# Altium schematic symbol library Howard.SchLib: 217 symbols (part 1 of 5)
Pins are listed as number, name and electrical type; pins without a type are passive.

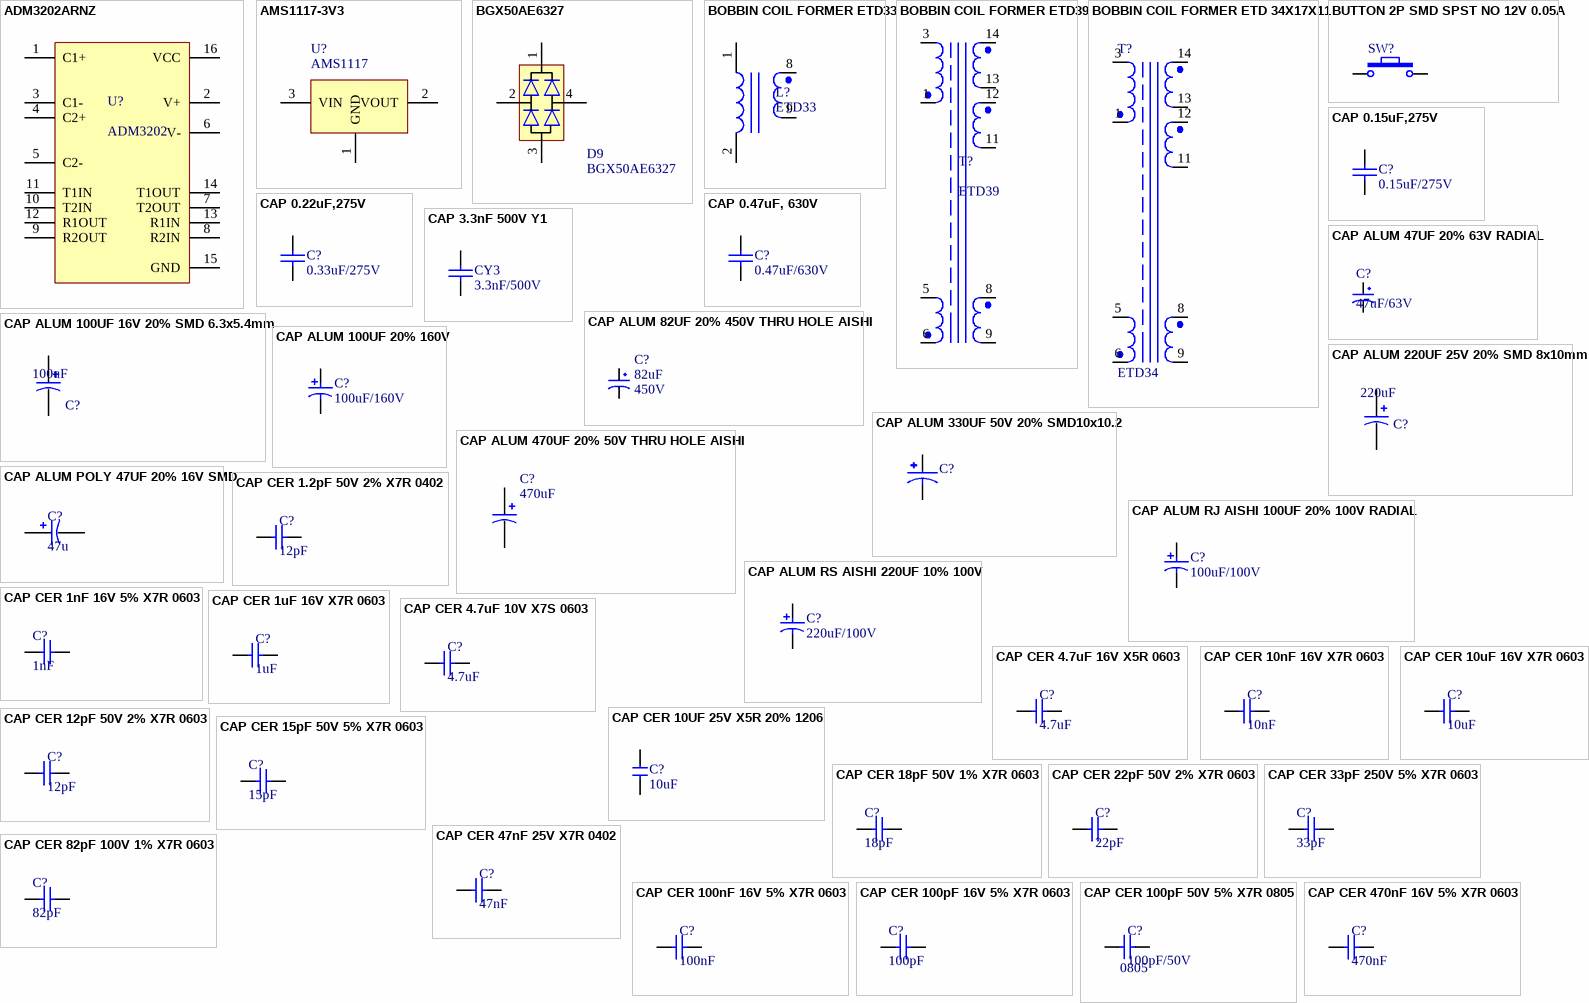
[diagram p0: symbols ADM3202ARNZ to CAP CER 470nF 16V 5% X7R 0603]

## ADM3202ARNZ
designator U?, comment ADM3202
Dual Transmitter/Receiver RS-232 16-Pin SOIC N Tube; Manufacturer: Analog Devices; Manufacturer Part Number: ADM3202ARNZ; Data Rate: 460Kbps; Nominal Supply Current: 12mA; Number of Transmitters: 2; Operating Supply Voltage: 3.3V; Min Supply Voltage: 3V; Max Supply Voltage: 5.5V; Logic Function: Transceiver,Receiver; Operating Supply Current: 3mA; Number of Transceivers: 1; Simplex/Duplex: Full Duplex; Receiver Hysteresis: 400mV; ESD Protection: Yes; Voltage: 5V; Supplier 1: Digi-Key; Stock 1: 12652; Pricing 1: 1=3.6, 10=3.229, 25=3.0528, 100=2.6458, 250=2.51008, 500=2.25228, 1000=1.92 (USD); Mount: Surface Mount; Case/Package: SOIC; Number of Pins: 16; Contact Plating: Tin,Matte; Min Operating Temperature: -40°C; Max Operating Temperature: 85°C; Packaging: Rail/Tube; Number of Receivers: 2; Package Quantity: 48; Number of Drivers: 2; Series: -; Supply Current: 12mA; Number of Channels: 2; Interface: RS-232; Termination: SMD/SMT; Max Supply Current: 12mA; Length: 10mm; Width: 4mm; Height: 1.5mm; Radiation Hardening: No; Lead Free: Contains Lead; RoHS Compliant: Yes; Reach SVHC Compliant: Yes; ComponentLink1URL: https://datasheet.ciiva.com/14152/sh646736-e-14152876.pdf?src-supplier=Distrelec; ComponentLink1Description: https://datasheet.ciiva.com/14152/sh646736-e-14152876.pdf?src-supplier=Distrelec; ComponentLink2URL: https://datasheet.ciiva.com/1147/1506138-1147497.pdf?src-supplier=Element14; ComponentLink2Description: https://datasheet.ciiva.com/1147/1506138-1147497.pdf?src-supplier=Element14; ComponentLink3URL: https://datasheet.ciiva.com/22697/1506138-22697583.pdf?src-supplier=Element14; ComponentLink3Description: https://datasheet.ciiva.com/22697/1506138-22697583.pdf?src-supplier=Element14; ComponentLink4URL: https://datasheet.ciiva.com/3028/adm3202-3222-1385-3028090.pdf?src-supplier=Avnet; ComponentLink4Description: https://datasheet.ciiva.com/3028/adm3202-3222-1385-3028090.pdf?src-supplier=Avnet; ComponentLink5URL: https://datasheet.ciiva.com/1700/adm3202-3222-1385-1700182.pdf?src-supplier=Digi-Key; ComponentLink5Description: https://datasheet.ciiva.com/1700/adm3202-3222-1385-1700182.pdf?src-supplier=Digi-Key; ComponentLink6URL: https://datasheet.ciiva.com/48710/001248386-da-01-en-ic-tx-rx-dual-rs-adm3202arnz-soic-16-adi-48710346.pdf?src-supplier=Conrad; ComponentLink6Description: https://datasheet.ciiva.com/48710/001248386-da-01-en-ic-tx-rx-dual-rs-adm3202arnz-soic-16-adi-48710346.pdf?src-supplier=Conrad; Supplier Part Number 1: 505-ADM3202ARNZ-ND
footprint SOIC-16 (Small Outline IC (SOIC), 1.27 mm pitch; 16 pin, 9.90 mm L X 4.00 mm W X 1.75 mm H body)
pins: 1 C1+, 2 V+, 3 C1-, 4 C2+, 5 C2-, 6 V-, 7 T2OUT, 8 R2IN, 9 R2OUT, 10 T2IN, 11 T1IN, 12 R1OUT, 13 R1IN, 14 T1OUT, 15 GND, 16 VCC

## AMS1117-3V3
designator U?, comment AMS1117
800mA Low-Dropout Linear Regulator
footprint SOT223 (mounted package with increased heatsink; 4  leads)
pins: 1 GND, 2 VOUT, 3 VIN

## BGX50AE6327
designator D9
DIODE SWITCHING 50V SOT-143; Manufacturer: Infineon Technologies; .Checked PCB: used; Current - DC Forward (If): 140mA; Diode Type: Single Phase; Speed: Small Signal =< 200mA (Io), Any Speed; Reverse Recovery Time (trr): 6ns; .Checked SCH: used; Category: Discrete Semiconductor Products; Family: Bridge Rectifiers; Manufacturer Part Number: BGX50AE6327; Package / Case: TO-253-4, TO-253AA; Price 1k [$]: 0.10013; Supplier: Digikey; Supplier Part Number: BGX50AINCT-ND; Value: BGX50AE6327; Supplier 1: Digi-Key; Supplier Part Number 1: BGX50AINCT-ND; RoHS: RoHS Compliant; Stock 1: 438; Pricing 1: 1=0.47, 10=0.334, 100=0.2225, 500=0.12906, 1000=0.10013 (USD); Voltage - Peak Reverse (Max): 50V; Mounting Type: Surface Mount; Packaging: Cut Tape (CT); Supplier Device Package: PG-SOT143-4; ComponentLink1URL: http://www.infineon.com/dgdl/bgx50aseries.pdf?folderId=db3a30431400ef6801141cc1c4cd04e8&fileId=db3a30431400ef6801141cc423c404e9; ComponentLink1Description: http://www.infineon.com/dgdl/bgx50aseries.pdf?folderId=db3a30431400ef6801141cc1c4cd04e8&fileId=db3a30431400ef6801141cc423c404e9
footprint SOT143
pins: 1, 2, 3, 4

## BOBBIN COIL FORMER ETD33
designator L?, comment ETD33
BOBBIN COIL FORMER ETD33
footprint EE33/6/6
pins: 1, 2, 8, 9

## BOBBIN COIL FORMER ETD39
designator T?, comment ETD39
Coil Former, 122Mm2, 60.5Mm, Black Rohs Compliant: Yes; Manufacturer: TDK EPCOS; Manufacturer Part Number: B66362W1014T001; Material: Polyterephthalate; Inside Diameter: 20.9mm; Outside Diameter: 25.4mm; Number of Pins: 14; Weight: 1.410958oz; Max Operating Temperature: 180°C; Package Quantity: 100; Series: B66362; Packaging: Bulk; Termination: Pin; ComponentLink1URL: https://datasheet.ciiva.com/48906/70419804-48906870.pdf?src-supplier=Allied+Electronics; ComponentLink1Description: https://datasheet.ciiva.com/48906/70419804-48906870.pdf?src-supplier=Allied+Electronics; Supplier 1: Digi-Key; Stock 1: 0; Pricing 1: 2100=0.7142 (USD); Length: 40mm; Width: 12.8mm; Height: 19.8mm; ComponentLink2URL: https://www.ferroxcube.com/upload/media/product/file/Pr_ds/ETD39_20_13.pdf?src-supplier=Digi-Key; ComponentLink2Description: https://www.ferroxcube.com/upload/media/product/file/Pr_ds/ETD39_20_13.pdf?src-supplier=Digi-Key; Supplier Part Number 1: ETD39/20/13-3C94-G200-ND
footprint ETD39
pins: 1, 3, 5, 6, 8, 9, 11, 12, 13, 14

## BOBBIN COIL FORMER ETD 34X17X11
designator T?, comment ETD34
Coil Former, 122Mm2, 60.5Mm, Black Rohs Compliant: Yes; Manufacturer: TDK EPCOS; Manufacturer Part Number: B66362W1014T001; Material: Polyterephthalate; Inside Diameter: 20.9mm; Outside Diameter: 25.4mm; Supplier 1: Digi-Key; Stock 1: 562; Pricing 1: 1=2.69, 10=2.318, 25=1.7616, 50=1.669, 100=1.4835, 250=1.39076, 500=1.29806, 1000=1.19143, 5000=1.15898 (USD); Number of Pins: 14; Weight: 1.410958oz; Max Operating Temperature: 180°C; Package Quantity: 100; Series: B66362; Packaging: Bulk; Termination: Pin; ComponentLink1URL: https://datasheet.ciiva.com/48906/70419804-48906870.pdf?src-supplier=Allied+Electronics; ComponentLink1Description: https://datasheet.ciiva.com/48906/70419804-48906870.pdf?src-supplier=Allied+Electronics; Supplier Part Number 1: 495-5465-ND
footprint ETD34
pins: 1, 3, 5, 6, 8, 9, 11, 12, 13, 14

## BUTTON 2P SMD SPST NO 12V 0.05A
designator SW?, comment BUTTON  (value not drawn)
BUTTON_2P_SMD_SPST-NO_12V_0.05A; Manufacturer: C&K; Manufacturer PN: PTS636 SK50 SMTR LFS; Value: SPST_SMD; Distributor: LCSC; Distributor PN: C2801281; Datasheet Link: https://datasheet.lcsc.com/lcsc/2304140030_C-K-PTS636-SK50-SMTR-LFS_C2801281.pdf; Sale Link: https://www.lcsc.com/product-detail/Tactile-Switches_C-K-PTS636-SK50-SMTR-LFS_C2801281.html; Price: $0.3965
footprint BUTTON_2_SMD (Button_2P_SMD_3x6x2.5mm)
pins: 1, 2

## CAP 0.15uF,275V
designator C?, comment 0.15uF/275V
CAP 0.15uF,275V; Manufacturer: LKCL; Manufacturer Part Number: CLA1240; Processing Type: DIP; Packing: Tube; Unit: PCS; Value: 0.1uF/275V; Category: Capacitor
footprint 0.15uF/275VAC 15mmH 5mmW 18mmL
pins: 1, 2

## CAP 0.22uF,275V
designator C?, comment 0.33uF/275V
CAP 0.1uF,275V; Manufacturer: LKCL; Manufacturer Part Number: CLA1240; Processing Type: DIP; Packing: Tube; Unit: PCS; Value: 0.1uF/275V; Category: Capacitor
footprint CAP 18X8.5X16.5X15 LEAD SPACING
pins: 1, 2

## CAP 0.47uF, 630V
designator C?, comment 0.47uF/630V
CAP 0.47uF, 630V; Manufacturer: LKCL; Manufacturer Part Number: CLA1240; Processing Type: DIP; Packing: Tube; Unit: PCS; Value: 0.1uF/275V; Category: Capacitor
footprint 470uF/630V (Cap np W 0.3)
pins: 1, 2

## CAP 3.3nF 500V Y1
designator CY3, comment 3.3nF/500V
CAP 3.3nF 500V Y1; Manufacturer: LKCL; Manufacturer Part Number: CLA1240; Processing Type: DIP; Packing: Tube; Unit: PCS; Value: 0.1uF/275V; Category: Capacitor
footprint TVR14391V
pins: 1, 2

## CAP ALUM 47UF 20% 63V RADIAL
designator C?, comment 47uF/63V
Cap Aluminum 47uF 63V 20% (8 X 11.5mm) Radial 3.5mm 405mA 3000 hr 105C Ammo Pack; Manufacturer: Nichicon; Manufacturer Part Number: UPW1J470MPD1TD; Dielectric Material: Aluminium; ESR (Equivalent Series Resistance): 684mR; Impedance: 342mR; Life (Hours): 3000Hour; Supplier 1: Digi-Key; Stock 1: 26935; Pricing 1: 1=0.45, 10=0.321, 50=0.2424, 100=0.2111, 500=0.15634 (USD); Mount: Through Hole; Case/Package: Radial; Min Operating Temperature: -55°C; Max Operating Temperature: 105°C; Capacitance: 47uF; Tolerance: 20%; Ripple Current: 405mA; Voltage Rating: 63V; Package Quantity: 1000; Packaging: Tape and Reel; Termination: Radial; Voltage Rating (DC): 63V; Series: UPW; Diameter: 8mm; Height: 11.5mm; Lead Pitch: 3.5mm; Height - Seated (Max): 0.512inch; Radiation Hardening: No; Reach SVHC Compliant: Yes; Lead Free: Lead Free; RoHS Compliant: Yes; ComponentLink1URL: https://datasheet.ciiva.com/7907/e-pw-7907438.pdf?src-supplier=Element14; ComponentLink1Description: https://datasheet.ciiva.com/7907/e-pw-7907438.pdf?src-supplier=Element14; ComponentLink2URL: https://datasheet.ciiva.com/46391/1909381-46391130.pdf?src-supplier=Element14; ComponentLink2Description: https://datasheet.ciiva.com/46391/1909381-46391130.pdf?src-supplier=Element14; ComponentLink3URL: https://datasheet.ciiva.com/29546/e-pw-29546670.pdf?src-supplier=Digi-Key; ComponentLink3Description: https://datasheet.ciiva.com/29546/e-pw-29546670.pdf?src-supplier=Digi-Key; ComponentLink4URL: https://datasheet.ciiva.com/29546/e-pw-29546669.pdf?src-supplier=Digi-Key; ComponentLink4Description: https://datasheet.ciiva.com/29546/e-pw-29546669.pdf?src-supplier=Digi-Key; ComponentLink5URL: https://datasheet.ciiva.com/16502/e-pw-16502651.pdf?src-supplier=Future+Electronics; ComponentLink5Description: https://datasheet.ciiva.com/16502/e-pw-16502651.pdf?src-supplier=Future+Electronics; Supplier Part Number 1: 493-11607-1-ND
footprint CAP_ALUM_D070_S35_H115
pins: 1, 2

## CAP ALUM 82UF 20% 450V THRU HOLE AISHI
designator C?, comment 82uF  VOLTAGE: 450V
CAP ALUM 82UF 20% 450V THRU HOLE AISHI; MANUFACTURER1: JCCON; MANUFACTURER2_PART#: 450V 100uF 18x33mm; Value: 100uF/450V; LOH_code: CL06677; Mô Tả: Tụ hóa 450V 100uF 18x30mm tần số cao; CATEGORY: CAP-TH; MANUFACTURER2: http://linhkienchatluong.vn/tu-hoa-co-phan-cuc/tu-hoa-450v-100uf-18x30mm-tan-so-cao_sp454_ct6508.aspx
footprint CAP 82uF 450V (CAP-ALUM,DIP;330uF,20%,18x35.5mm,200V)
footprint C100U/450V (CAP-ALUM,DIP;1000uF,20%,18x35.5mm,450V)
pins: 1, 2

## CAP ALUM 100UF 16V 20% SMD 6.3x5.4mm
designator C?, comment 100uF
CAP_ALUM_100UF_16V_20%_SMD_6.3x5.4mm; Manufacturer: KEMET; Manufacturer PN: EEV107M016A9GAA; Distributor PN: CLA1046; Sale Link: https://linhkienchatluong.vn/tu-nhom---tu-hoa-dan/tu-nhom-16v-100uf-63x54mm_sp455_ct963.aspx; Distributor: linhkienchatluong.vn
footprint CAP_ALU_6.3x5.4mm
pins: 1, 2

## CAP ALUM 100UF 20% 160V
designator C?, comment 100uF/160V
Cap Aluminum Lytic 22uF 250V 20% (13 X 25mm) Radial 5mm 170mA 5000h 105C Bulk; Manufacturer: KEMET; Manufacturer Part Number: ESG226M400AL4AA; Dielectric Material: Aluminium; Life (Hours): 5000Hour; Voltage Rating: 400V; Impedance: 1.35R; Leakage Current: 62.8uA; Polarity: Polar; Dissipation Factor: 0.24%; Lead/Base Style: Straight; Lead Diameter: 0.6mm; Lead Length: 20mm; Supplier 1: Digi-Key; Stock 1: 1698; Pricing 1: 1=1.41, 10=1.111, 50=0.9624, 100=0.8329, 500=0.62932, 1000=0.55528, 2500=0.51826, 5000=0.49975 (USD); Mount: Through Hole,PCB; Case/Package: Radial; Min Operating Temperature: -40°C; Max Operating Temperature: 105°C; Capacitance: 22uF; Tolerance: 20%; Ripple Current: 170mA; Termination: Radial; Package Quantity: 1600; Packaging: Bulk; Voltage Rating (DC): 400V; ESR (Equivalent Series Resistance): 1.35R; Voltage: 400V; Series: ESG; Diameter: 13mm; Length: 25mm; Height: 25mm; Lead Pitch: 5mm; Height - Seated (Max): 1.063inch; Radiation Hardening: No; RoHS Compliant: Yes; Supplier Part Number 1: 399-6090-ND
footprint CAP_ALUM_D160_S75_H250
pins: 1, 2

## CAP ALUM 220UF 25V 20% SMD 8x10mm
designator C?, comment 220uF
CAP_ALUM_220UF_25V_20%_SMD_8x10mm; Manufacturer: KEMET; Manufacturer PN: EEV227M025A9MAA; Distributor PN: CLA1055; Sale Link: https://linhkienchatluong.vn/tu-nhom---tu-hoa-dan/tu-nhom-25v-220uf-8x10mm_sp455_ct970.aspx; Distributor: linhkienchatluong.vn
footprint CAP_ALU_8x10mm
pins: 1, 2

## CAP ALUM 330UF 50V 20% SMD10x10.2
designator C?, comment 330uF  (value not drawn)
CAP_ALUM_330UF_50V_20%_SMD10x10.2; Manufacturer PN: RVT330UF50V167RV085; Manufacturer: KNSCHA; Value: 330uF-50V; Datasheet: *; Sale Link: *; Distributor: LCSC; Price: *; NI: *; Distributor PN: C5155333
footprint CAP_EEEFT1H331AV
pins: 1, 2

## CAP ALUM 470UF 20% 50V THRU HOLE AISHI
designator C?, comment 470uF
CAP ALUM 470UF 20% 50V THRU HOLE AISHI; MANUFACTURER1: JCCON; MANUFACTURER2_PART#: 450V 100uF 18x33mm; Value: 100uF/450V; LOH_code: CL06677; Mô Tả: Tụ hóa 450V 100uF 18x30mm tần số cao; CATEGORY: CAP-TH; MANUFACTURER2: http://linhkienchatluong.vn/tu-hoa-co-phan-cuc/tu-hoa-450v-100uf-18x30mm-tan-so-cao_sp454_ct6508.aspx
footprint 470uF/50V
pins: 1, 2

## CAP ALUM POLY 47UF 20% 16V SMD
designator C?, comment 47u
Cap Aluminum Polymer Hybrid 47uF 16VDC 20% (5 X 5.8mm) SMD 0.08 Ohm 550mA 4000h 125C Automotive T/R; Manufacturer: United Chemi-Con; Manufacturer Part Number: HHXC160ARA470ME61G; Voltage Rating: 16V; ESR (Equivalent Series Resistance): 80mR; Life (Hours): 4000Hour; Supplier 1: Digi-Key; Stock 1: 1879; Pricing 1: 1=0.92, 10=0.68, 50=0.5442, 100=0.4664, 500=0.36926 (USD); Mount: Surface Mount; Case/Package: Radial; Min Operating Temperature: -55°C; Max Operating Temperature: 125°C; Resistor Type: Hybrid; Packaging: Cut Tape; Capacitance: 47uF; Tolerance: 20%; Series: HXC; Ratings: AEC-Q200; RoHS Compliant: Yes; ComponentLink1URL: http://www.chemi-con.co.jp/cgi-bin/CAT_DB/SEARCH/cat_db_al.cgi?e=e&j=p&pdfname=hxc&src-supplier=Digi-Key; ComponentLink1Description: http://www.chemi-con.co.jp/cgi-bin/CAT_DB/SEARCH/cat_db_al.cgi?e=e&j=p&pdfname=hxc&src-supplier=Digi-Key; ComponentLink2URL: http://www.chemi-con.co.jp/cgi-bin/CAT_DB/SEARCH/cat_db_al.cgi?e=e&amp;j=p&amp;pdfname=hxc&src-supplier=Digi-Key; ComponentLink2Description: http://www.chemi-con.co.jp/cgi-bin/CAT_DB/SEARCH/cat_db_al.cgi?e=e&amp;j=p&amp;pdfname=hxc&src-supplier=Digi-Key; Supplier Part Number 1: 565-5033-6-ND
footprint CAP_ALUM_SMD_5054_TYPE_C
pins: 1, 2

## CAP ALUM RJ AISHI 100UF 20% 100V RADIAL
designator C?, comment 100uF/100V
220 µF 250 V Aluminum Electrolytic Capacitors Radial, Can 5000 Hrs @ 105°C; Manufacturer: Nichicon; Manufacturer Part Number: UPT2P221MHD6; Capacitance: 220uF; Tolerance: 20%; Voltage Rating: 220V; Ripple Current: 770mA; Leakage Current: 2.914mA; Life (Hours): 5000Hour; Dissipation Factor: 0.12%; Mount: Through Hole; Case/Package: Radial; Min Operating Temperature: -25°C; Max Operating Temperature: 105°C; Package Quantity: 50; Packaging: Bulk; Termination: Radial; Voltage Rating (DC): 220V; Features: General Purpose; Series: PT; Diameter: 18mm; Length: 31.5mm; Height: 31.5mm; Lead Pitch: 7.5mm; Height - Seated (Max): 1.299inch; Radiation Hardening: No; RoHS Compliant: Yes; ComponentLink1URL: http://nichicon-us.com/english/products/pdfs/e-upt.pdf?src-supplier=Digi-Key; ComponentLink1Description: http://nichicon-us.com/english/products/pdfs/e-upt.pdf?src-supplier=Digi-Key; ComponentLink2URL: http://www.nichicon.co.jp/english/products/pdfs/e-pt.pdf?src-supplier=Avnet; ComponentLink2Description: http://www.nichicon.co.jp/english/products/pdfs/e-pt.pdf?src-supplier=Avnet; Supplier 1: Digi-Key; Supplier Part Number 1: 493-7355-ND
footprint 100uF/100V
pins: 1, 2

## CAP ALUM RS AISHI 220UF 10% 100V
designator C?, comment 220uF/100V
Cap Aluminum Lytic 220uF 100V 20% (13 X 25mm) Radial 5mm 170mA 5000h 105C Bulk; Manufacturer: KEMET; Manufacturer Part Number: ESG226M400AL4AA; Dielectric Material: Aluminium; Capacitance: 22uF; Life (Hours): 5000Hour; Voltage Rating: 400V; Impedance: 1.35R; Leakage Current: 62.8uA; Polarity: Polar; Dissipation Factor: 0.24%; Lead/Base Style: Straight; Lead Diameter: 0.6mm; Lead Length: 20mm; Supplier 1: Digi-Key; Stock 1: 1698; Pricing 1: 1=1.41, 10=1.111, 50=0.9624, 100=0.8329, 500=0.62932, 1000=0.55528, 2500=0.51826, 5000=0.49975 (USD); Mount: Through Hole,PCB; Case/Package: Radial; Min Operating Temperature: -40°C; Max Operating Temperature: 105°C; Tolerance: 20%; Ripple Current: 170mA; Termination: Radial; Package Quantity: 1600; Packaging: Bulk; Voltage Rating (DC): 400V; ESR (Equivalent Series Resistance): 1.35R; Voltage: 400V; Series: ESG; Diameter: 13mm; Length: 25mm; Height: 25mm; Lead Pitch: 5mm; Height - Seated (Max): 1.063inch; Radiation Hardening: No; RoHS Compliant: Yes; Supplier Part Number 1: 399-6090-ND
footprint 220UF/100V
pins: 1, 2

## CAP CER 1.2pF 50V 2% X7R 0402
designator C?, comment 12pF
Cap Ceramic 12pF 50V C0G 2% SMD 0402 125C Paper T/R
footprint C0402
pins: 1, 2

## CAP CER 1nF 16V 5% X7R 0603
designator C?, comment 1nF
1000 pF ±5% 16V Ceramic Capacitor X7R 0603 (1608 Metric); Manufacturer: KEMET; Manufacturer Part Number: C0603X102J4RECAUTO; Supplier 1: Digi-Key; Stock 1: 2638; Pricing 1: 1=0.22, 10=0.147, 50=0.0882, 100=0.0744, 500=0.0509, 1000=0.04503 (USD); Mount: Surface Mount; Case/Package: 0603; Case Code (Imperial): 0603; Case Code (Metric): 1608; Min Operating Temperature: -55°C; Max Operating Temperature: 125°C; Features: Soft Termination; Packaging: Tape and Reel; Capacitance: 1nF; Tolerance: 5%; Voltage Rating: 16V; Ratings: AEC-Q200; RoHS Compliant: Yes; ComponentLink1URL: http://www.farnell.com/datasheets/2743686.pdf?src-supplier=Newark; ComponentLink1Description: http://www.farnell.com/datasheets/2743686.pdf?src-supplier=Newark; ComponentLink2URL: http://www.farnell.com/datasheets/2743686.pdf?src-supplier=Farnell; ComponentLink2Description: http://www.farnell.com/datasheets/2743686.pdf?src-supplier=Farnell; ComponentLink3URL: https://api.kemet.com/component-edge/download/datasheet/C0603X102J4RECAUTO.pdf?src-supplier=Digi-Key; ComponentLink3Description: https://api.kemet.com/component-edge/download/datasheet/C0603X102J4RECAUTO.pdf?src-supplier=Digi-Key; Supplier Part Number 1: 399-17840-1-ND
footprint C0603C/1608MM (Chip Capacitor, 2-Leads, Body 1.6x0.8mm, IPC High Density)
pins: 1, 2

## CAP CER 1uF 16V X7R 0603
designator C?, comment 1uF
CAP CER 1UF 16V X7R 0603; Manufacturer: Yageo; Manufacturer Part Number: CC0603JRX7R7BB105; Tolerance: 5%; Mount: Surface Mount; Case/Package: 0603; Case Code (Imperial): 0603; Case Code (Metric): 1608; Min Operating Temperature: -55°C; Max Operating Temperature: 125°C; Packaging: Tape and Reel; Capacitance: 1uF; Voltage Rating: 16V; ComponentLink1URL: http://www.yageo.com/documents/recent/UPY-GPHC_X7R_6.3V-to-50V_18.pdf?src-supplier=Digi-Key; ComponentLink1Description: http://www.yageo.com/documents/recent/UPY-GPHC_X7R_6.3V-to-50V_18.pdf?src-supplier=Digi-Key; Supplier 1: Digi-Key; Stock 1: 970392; Pricing 1: 1=0.16, 10=0.112, 50=0.0634, 100=0.0525, 500=0.03682, 1000=0.03049 (USD); Number of Pins: 2; Dielectric: X7R; Package Quantity: 1; Voltage Rating (DC): 16V; Termination: SMD/SMT; Resistor Type: Ceramic; Dissipation Factor: 5%; Voltage: 16V; Series: CC; Construction: Flat; Length: 1.6mm; Width: 0.031inch; Height: 0.8mm; Thickness: 0.035inch; Depth: 0.8mm; Radiation Hardening: No; REACH SVHC: Unknown; Lead Free: Lead Free; Halogen Free: Halogen Free; RoHS Compliant: Yes; ComponentLink2URL: http://www.farnell.com/datasheets/2167236.pdf?src-supplier=Element14; ComponentLink2Description: http://www.farnell.com/datasheets/2167236.pdf?src-supplier=Element14; ComponentLink3URL: http://www.farnell.com/datasheets/1489800.pdf?src-supplier=Element14; ComponentLink3Description: http://www.farnell.com/datasheets/1489800.pdf?src-supplier=Element14; ComponentLink4URL: http://www.yageo.com/documents/recent/UPY-GPHC_X7R_6.3V-to-50V_18.pdf?src-supplier=Mouser; ComponentLink4Description: http://www.yageo.com/documents/recent/UPY-GPHC_X7R_6.3V-to-50V_18.pdf?src-supplier=Mouser; ComponentLink5URL: http://www.yageo.com/documents/recent/UPY-GPHC_X7R_6.3V-to-50V_8.pdf?src-supplier=Avnet+Europe; ComponentLink5Description: http://www.yageo.com/documents/recent/UPY-GPHC_X7R_6.3V-to-50V_8.pdf?src-supplier=Avnet+Europe; Supplier Part Number 1: 311-1446-6-ND
footprint C0603C/1608MM (Chip Capacitor, 2-Leads, Body 1.6x0.8mm, IPC High Density)
pins: 1, 2

## CAP CER 4.7uF 10V X7S 0603
designator C?, comment 4.7uF
Cap Ceramic 4.7uF 10V X7S 10% Pad SMD 0603 125C T/R; Manufacturer: Murata; Manufacturer Part Number: GRM188C71A475KE21D; Supplier 1: Digi-Key; Stock 1: 249; Pricing 1: 1=0.32, 10=0.218, 50=0.1452, 100=0.1234 (USD); RoHS Compliant: Yes; Supplier Part Number 1: 490-GRM188C71A475KE21DCT-ND
footprint C0603C/1608MM (Chip Capacitor, 2-Leads, Body 1.6x0.8mm, IPC High Density)
pins: 1, 2

## CAP CER 4.7uF 16V X5R 0603
designator C?, comment 4.7uF
CAP CERAMIC, 4.7UF, 16V, X5R, 0603; Product Range:TDK - C Series; Capacitance:4.7µF; Capacitance Tolerance:± 10%; Dielectric Characteristic:X5R; Voltage Rating:16V; Ceramic Capacitor Case:0603 ^1608 Metric]; Packaging:Cut Tape; MSL:-; Manufacturer: TDK; Manufacturer Part Number: C1608X5R1C475K080AC; Supplier 1: Digi-Key; Stock 1: 166673; Pricing 1: 1=0.3, 10=0.207, 50=0.138, 100=0.1173, 500=0.0828, 1000=0.07245 (USD); Mount: Surface Mount; Case/Package: 0603; Case Code (Metric): 1608; Case Code (Imperial): 0603; Weight: 7.1E-05oz; Dielectric Material: Ceramic; Min Operating Temperature: -55°C; Max Operating Temperature: 85°C; Capacitance: 4.7uF; Tolerance: 10%; Voltage Rating: 16V; Packaging: Tape and Reel; Package Quantity: 1; Dielectric: X5R; Voltage: 16V; Termination: SMD/SMT; Voltage Rating (DC): 16V; Series: C; Construction: Flat; Length: 1.6mm; Width: 0.031inch; Height: 0.8mm; Thickness: 0.035inch; Depth: 0.8mm; REACH SVHC: No SVHC; Lead Free: Lead Free; RoHS Compliant: Yes; ComponentLink1URL: http://www.farnell.com/datasheets/1796654.pdf?src-supplier=Newark; ComponentLink1Description: http://www.farnell.com/datasheets/1796654.pdf?src-supplier=Newark; ComponentLink2URL: http://www.farnell.com/datasheets/1796654.pdf?src-supplier=Element14; ComponentLink2Description: http://www.farnell.com/datasheets/1796654.pdf?src-supplier=Element14; ComponentLink3URL: http://www.farnell.com/datasheets/1913358.pdf?src-supplier=Element14; ComponentLink3Description: http://www.farnell.com/datasheets/1913358.pdf?src-supplier=Element14; ComponentLink4URL: http://product.tdk.com/capacitor/mlcc/en/documents/mlcc_commercial_general_en.pdf?src-supplier=Element14; ComponentLink4Description: http://product.tdk.com/capacitor/mlcc/en/documents/mlcc_commercial_general_en.pdf?src-supplier=Element14; ComponentLink5URL: https://product.tdk.com/info/en/catalog/spec/mlccspec_commercial_general_midvoltage_en.pdf?src-supplier=Digi-Key; ComponentLink5Description: https://product.tdk.com/info/en/catalog/spec/mlccspec_commercial_general_midvoltage_en.pdf?src-supplier=Digi-Key; Supplier Part Number 1: 445-7478-6-ND
footprint C0603C/1608MM (Chip Capacitor, 2-Leads, Body 1.6x0.8mm, IPC High Density)
pins: 1, 2

## CAP CER 10nF 16V X7R 0603
designator C?, comment 10nF
CAP CER 0603 10NF 16V X7R 10%; Manufacturer: KEMET; Manufacturer Part Number: C0603C103K4RECAUTO; Supplier 1: Digi-Key; Stock 1: 50866; Pricing 1: 1=0.15, 10=0.11, 50=0.0624, 100=0.0517, 500=0.03624, 1000=0.03 (USD); Mount: Surface Mount; Case/Package: 0603; Case Code (Imperial): 0603; Case Code (Metric): 1608; Min Operating Temperature: -55°C; Max Operating Temperature: 125°C; Packaging: Tape and Reel; Capacitance: 10nF; Tolerance: 10%; Voltage Rating: 16V; Ratings: AEC-Q200; RoHS Compliant: Yes; ComponentLink1URL: https://api.kemet.com/component-edge/download/datasheet/C0603C103K4RECAUTO.pdf?src-supplier=Digi-Key; ComponentLink1Description: https://api.kemet.com/component-edge/download/datasheet/C0603C103K4RECAUTO.pdf?src-supplier=Digi-Key; Supplier Part Number 1: 399-17880-1-ND
footprint C0603C/1608MM (Chip Capacitor, 2-Leads, Body 1.6x0.8mm, IPC High Density)
pins: 1, 2

## CAP CER 10uF 16V X7R 0603
designator C?, comment 10uF
CAP CER 0603 10uF 16V X7R 10%
footprint C0603C/1608MM (Chip Capacitor, 2-Leads, Body 1.6x0.8mm, IPC High Density)
pins: 1, 2

## CAP CER 10UF 25V X5R 20% 1206
designator C?, comment 10uF
CAP CER 10UF 25V X5R 1206; Manufacturer: Murata; Manufacturer Part Number: GRM31CR61E476ME44L; Capacitance: 4.7uF; Tolerance: 20%; Supplier 1: Digi-Key; Stock 1: 20758; Pricing 1: 1=1.14, 10=0.899, 100=0.674, 500=0.50924, 1000=0.44933 (USD); Length: 3.2mm; Width: 1.6mm; Thickness: 1.6mm; ComponentLink1URL: https://search.murata.co.jp/Ceramy/image/img/A01X/partnumbering_e_01.pdf?src-supplier=Digi-Key; ComponentLink1Description: https://search.murata.co.jp/Ceramy/image/img/A01X/partnumbering_e_01.pdf?src-supplier=Digi-Key; Supplier Part Number 1: 490-16268-6-ND; Case/Package: 1206; Voltage Rating (DC): 25V; Dielectric: X5R
footprint C1206B/3216MM (Chip Capacitor, 2-Leads, Body 3.2x1.6mm, IPC Medium Density)
pins: 1, 2

## CAP CER 12pF 50V 2% X7R 0603
designator C?, comment 12pF
Cap Ceramic 12pF 50V C0G 2% SMD 0603 125C Paper T/R; Manufacturer: Yageo; Manufacturer Part Number: CC0603GRNPO9BN120; Mount: Surface Mount; Case/Package: 0603; Number of Pins: 2; Case Code (Imperial): 0603; Case Code (Metric): 1608; Min Operating Temperature: -55°C; Max Operating Temperature: 125°C; Capacitance: 12pF; Tolerance: 2%; Dielectric: C0G; Packaging: Tape and Reel; Voltage Rating: 50V; Voltage Rating (DC): 50V; Termination: SMD/SMT; Resistor Type: Ceramic; Series: CC; Length: 1.6mm; Width: 0.031inch; Height: 0.8mm; Thickness: 0.035inch; Depth: 0.8mm; Lead Free: Lead Free; RoHS Compliant: Yes; Supplier 1: Digi-Key; Stock 1: 467; Pricing 1: 1=0.1, 10=0.049, 50=0.0268, 100=0.0219, 500=0.01566, 1000=0.0123, 2500=0.01118, 5000=0.01029 (USD); Weight: 2.3E-05oz; Supplier Part Number 1: 311-3609-6-ND; ComponentLink1URL: http://www.mouser.com/ds/2/447/Yageo_UPY-GP_NP0_16V-to-50V_9-358835.pdf?src-supplier=Mouser; ComponentLink1Description: http://www.mouser.com/ds/2/447/Yageo_UPY-GP_NP0_16V-to-50V_9-358835.pdf?src-supplier=Mouser
footprint C0603C/1608MM (Chip Capacitor, 2-Leads, Body 1.6x0.8mm, IPC High Density)
pins: 1, 2

## CAP CER 15pF 50V 5% X7R 0603
designator C?, comment 15pF
Cap Ceramic 15pF 50V C0G 5% Pad SMD 0603 125C T/R; Manufacturer: Yageo; Manufacturer Part Number: CC0402JRNPO7BN101; Capacitance: 100pF; Voltage Rating (DC): 16V; Mount: Surface Mount; Case/Package: 0402; Number of Pins: 2; Case Code (Imperial): 0402; Case Code (Metric): 1005; Weight: 2.3E-05oz; Min Operating Temperature: -55°C; Max Operating Temperature: 125°C; Tolerance: 5%; Packaging: Tape and Reel; Voltage Rating: 16V; Dielectric: C0G; Termination: SMD/SMT; Resistor Type: Ceramic; Series: CC; Length: 0.039inch; Width: 0.02inch; Thickness: 0.022inch; Depth: 0.5mm; Lead Free: Lead Free; ComponentLink1URL: http://www.yageo.com/documents/recent/UPY-GP_NP0_16V-to-50V_16.pdf?src-supplier=Digi-Key; ComponentLink1Description: http://www.yageo.com/documents/recent/UPY-GP_NP0_16V-to-50V_16.pdf?src-supplier=Digi-Key; ComponentLink2URL: https://www.yageo.com/upload/media/product/productsearch/datasheet/mlcc/UPY-GP_NP0_16V-to-50V_18.pdf?src-supplier=Digi-Key; ComponentLink2Description: https://www.yageo.com/upload/media/product/productsearch/datasheet/mlcc/UPY-GP_NP0_16V-to-50V_18.pdf?src-supplier=Digi-Key; ComponentLink3URL: http://www.mouser.com/ds/2/447/Yageo_UPY-GP_NP0_16V-to-50V_9-358835.pdf?src-supplier=Mouser; ComponentLink3Description: http://www.mouser.com/ds/2/447/Yageo_UPY-GP_NP0_16V-to-50V_9-358835.pdf?src-supplier=Mouser; ComponentLink4URL: http://components.arrow.com/part/dataview/0323_00775890?src-supplier=Arrow+Europe; ComponentLink4Description: http://components.arrow.com/part/dataview/0323_00775890?src-supplier=Arrow+Europe; ComponentLink5URL: http://www.yageo.com/documents/recent/UPY-GP_NP0_16V-to-50V_9.pdf?src-supplier=Future+Electronics; ComponentLink5Description: http://www.yageo.com/documents/recent/UPY-GP_NP0_16V-to-50V_9.pdf?src-supplier=Future+Electronics; ComponentLink6URL: http://www.yageo.com/exep/pages/download/literatures/ProductSelectionGuide%202014_Final_2.pdf?src-supplier=Digi-Key; ComponentLink6Description: http://www.yageo.com/exep/pages/download/literatures/ProductSelectionGuide%202014_Final_2.pdf?src-supplier=Digi-Key; Supplier 1: Digi-Key; Stock 1: 8300; Pricing 1: 1=0.23, 10=0.157, 50=0.094, 100=0.0794, 500=0.05436, 1000=0.04809 (USD); Supplier Part Number 1: 399-CBR06C150J5GACAUTOCT-ND
footprint C0603C/1608MM (Chip Capacitor, 2-Leads, Body 1.6x0.8mm, IPC High Density)
pins: 1, 2

## CAP CER 18pF 50V 1% X7R 0603
designator C?, comment 18pF
18 pF ±5% 50V Ceramic Capacitor C0G, NP0 0603 (1608 Metric); Manufacturer: Yageo; Manufacturer Part Number: CC0402JRNPO7BN101; Capacitance: 100pF; Voltage Rating (DC): 16V; Mount: Surface Mount; Case/Package: 0402; Number of Pins: 2; Case Code (Imperial): 0402; Case Code (Metric): 1005; Weight: 2.3E-05oz; Min Operating Temperature: -55°C; Max Operating Temperature: 125°C; Tolerance: 5%; Packaging: Tape and Reel; Voltage Rating: 16V; Dielectric: C0G; Termination: SMD/SMT; Resistor Type: Ceramic; Series: CC; Length: 0.039inch; Width: 0.02inch; Thickness: 0.022inch; Depth: 0.5mm; Lead Free: Lead Free; ComponentLink1URL: http://www.yageo.com/documents/recent/UPY-GP_NP0_16V-to-50V_16.pdf?src-supplier=Digi-Key; ComponentLink1Description: http://www.yageo.com/documents/recent/UPY-GP_NP0_16V-to-50V_16.pdf?src-supplier=Digi-Key; ComponentLink2URL: https://www.yageo.com/upload/media/product/productsearch/datasheet/mlcc/UPY-GP_NP0_16V-to-50V_18.pdf?src-supplier=Digi-Key; ComponentLink2Description: https://www.yageo.com/upload/media/product/productsearch/datasheet/mlcc/UPY-GP_NP0_16V-to-50V_18.pdf?src-supplier=Digi-Key; ComponentLink3URL: http://www.mouser.com/ds/2/447/Yageo_UPY-GP_NP0_16V-to-50V_9-358835.pdf?src-supplier=Mouser; ComponentLink3Description: http://www.mouser.com/ds/2/447/Yageo_UPY-GP_NP0_16V-to-50V_9-358835.pdf?src-supplier=Mouser; ComponentLink4URL: http://components.arrow.com/part/dataview/0323_00775890?src-supplier=Arrow+Europe; ComponentLink4Description: http://components.arrow.com/part/dataview/0323_00775890?src-supplier=Arrow+Europe; ComponentLink5URL: http://www.yageo.com/documents/recent/UPY-GP_NP0_16V-to-50V_9.pdf?src-supplier=Future+Electronics; ComponentLink5Description: http://www.yageo.com/documents/recent/UPY-GP_NP0_16V-to-50V_9.pdf?src-supplier=Future+Electronics; ComponentLink6URL: http://www.yageo.com/exep/pages/download/literatures/ProductSelectionGuide%202014_Final_2.pdf?src-supplier=Digi-Key; ComponentLink6Description: http://www.yageo.com/exep/pages/download/literatures/ProductSelectionGuide%202014_Final_2.pdf?src-supplier=Digi-Key; Supplier 1: Digi-Key; Stock 1: 15866; Pricing 1: 1=0.33, 10=0.227, 50=0.159, 100=0.1364, 500=0.10226, 1000=0.08636 (USD); Supplier Part Number 1: 478-KGQ15ACG2A820FTCT-ND
footprint C0603C/1608MM (Chip Capacitor, 2-Leads, Body 1.6x0.8mm, IPC High Density)
pins: 1, 2

## CAP CER 22pF 50V 2% X7R 0603
designator C?, comment 22pF
Cap Ceramic 22pF 50V C0G 2% SMD 0603 125C Paper T/R; Manufacturer: Yageo; Manufacturer Part Number: CC0603GRNPO9BN120; Capacitance: 12pF; Mount: Surface Mount; Case/Package: 0603; Number of Pins: 2; Case Code (Imperial): 0603; Case Code (Metric): 1608; Min Operating Temperature: -55°C; Max Operating Temperature: 125°C; Tolerance: 2%; Dielectric: C0G; Packaging: Tape and Reel; Voltage Rating: 50V; Voltage Rating (DC): 50V; Termination: SMD/SMT; Resistor Type: Ceramic; Series: CC; Length: 1.6mm; Width: 0.031inch; Height: 0.8mm; Thickness: 0.035inch; Depth: 0.8mm; Lead Free: Lead Free; RoHS Compliant: Yes; Supplier 1: Digi-Key; Stock 1: 467; Pricing 1: 1=0.1, 10=0.049, 50=0.0268, 100=0.0219, 500=0.01566, 1000=0.0123, 2500=0.01118, 5000=0.01029 (USD); Weight: 2.3E-05oz; Supplier Part Number 1: 311-3609-6-ND; ComponentLink1URL: http://www.mouser.com/ds/2/447/Yageo_UPY-GP_NP0_16V-to-50V_9-358835.pdf?src-supplier=Mouser; ComponentLink1Description: http://www.mouser.com/ds/2/447/Yageo_UPY-GP_NP0_16V-to-50V_9-358835.pdf?src-supplier=Mouser
footprint C0603C/1608MM (Chip Capacitor, 2-Leads, Body 1.6x0.8mm, IPC High Density)
pins: 1, 2

## CAP CER 33pF 250V 5% X7R 0603
designator C?, comment 33pF
Cap Ceramic 33pF 250V C0G 5% Pad SMD 0603 125C T/R; Manufacturer: Yageo; Manufacturer Part Number: CC0402JRNPO7BN101; Capacitance: 100pF; Voltage Rating (DC): 16V; Mount: Surface Mount; Case/Package: 0402; Number of Pins: 2; Case Code (Imperial): 0402; Case Code (Metric): 1005; Weight: 2.3E-05oz; Min Operating Temperature: -55°C; Max Operating Temperature: 125°C; Tolerance: 5%; Packaging: Tape and Reel; Voltage Rating: 16V; Dielectric: C0G; Termination: SMD/SMT; Resistor Type: Ceramic; Series: CC; Length: 0.039inch; Width: 0.02inch; Thickness: 0.022inch; Depth: 0.5mm; Lead Free: Lead Free; ComponentLink1URL: http://www.yageo.com/documents/recent/UPY-GP_NP0_16V-to-50V_16.pdf?src-supplier=Digi-Key; ComponentLink1Description: http://www.yageo.com/documents/recent/UPY-GP_NP0_16V-to-50V_16.pdf?src-supplier=Digi-Key; ComponentLink2URL: https://www.yageo.com/upload/media/product/productsearch/datasheet/mlcc/UPY-GP_NP0_16V-to-50V_18.pdf?src-supplier=Digi-Key; ComponentLink2Description: https://www.yageo.com/upload/media/product/productsearch/datasheet/mlcc/UPY-GP_NP0_16V-to-50V_18.pdf?src-supplier=Digi-Key; ComponentLink3URL: http://www.mouser.com/ds/2/447/Yageo_UPY-GP_NP0_16V-to-50V_9-358835.pdf?src-supplier=Mouser; ComponentLink3Description: http://www.mouser.com/ds/2/447/Yageo_UPY-GP_NP0_16V-to-50V_9-358835.pdf?src-supplier=Mouser; ComponentLink4URL: http://components.arrow.com/part/dataview/0323_00775890?src-supplier=Arrow+Europe; ComponentLink4Description: http://components.arrow.com/part/dataview/0323_00775890?src-supplier=Arrow+Europe; ComponentLink5URL: http://www.yageo.com/documents/recent/UPY-GP_NP0_16V-to-50V_9.pdf?src-supplier=Future+Electronics; ComponentLink5Description: http://www.yageo.com/documents/recent/UPY-GP_NP0_16V-to-50V_9.pdf?src-supplier=Future+Electronics; ComponentLink6URL: http://www.yageo.com/exep/pages/download/literatures/ProductSelectionGuide%202014_Final_2.pdf?src-supplier=Digi-Key; ComponentLink6Description: http://www.yageo.com/exep/pages/download/literatures/ProductSelectionGuide%202014_Final_2.pdf?src-supplier=Digi-Key; Supplier 1: Digi-Key; Stock 1: 308594; Pricing 1: 1=0.31, 10=0.218, 50=0.1524, 100=0.1306, 500=0.09794, 1000=0.08271 (USD); Supplier Part Number 1: 712-QSCP251Q330J1GV001TCT-ND
footprint C0603C/1608MM (Chip Capacitor, 2-Leads, Body 1.6x0.8mm, IPC High Density)
pins: 1, 2

## CAP CER 47nF 25V X7R 0402
designator C?, comment 47nF
Cap Ceramic 47nF 25V X7R 10% SMD 0402 125C T/R; Manufacturer: KEMET; Manufacturer Part Number: C0402C473K3REC7867; Supplier 1: Digi-Key; Stock 1: 1445; Pricing 1: 1=0.12, 10=0.083, 50=0.047, 100=0.039, 500=0.02736, 1000=0.02265, 2500=0.02108, 5000=0.01929 (USD); Supplier Part Number 1: 399-C0402C473K3REC7867DKR-ND
footprint C0402
pins: 1, 2

## CAP CER 82pF 100V 1% X7R 0603
designator C?, comment 82pF
82 pF ±1% 100V Ceramic Capacitor C0G, NP0 0603 (1608 Metric); Manufacturer: Yageo; Manufacturer Part Number: CC0402JRNPO7BN101; Capacitance: 100pF; Tolerance: 5%; Voltage Rating (DC): 16V; Mount: Surface Mount; Case/Package: 0402; Number of Pins: 2; Case Code (Imperial): 0402; Case Code (Metric): 1005; Weight: 2.3E-05oz; Min Operating Temperature: -55°C; Max Operating Temperature: 125°C; Packaging: Tape and Reel; Voltage Rating: 16V; Dielectric: C0G; Termination: SMD/SMT; Resistor Type: Ceramic; Series: CC; Length: 0.039inch; Width: 0.02inch; Thickness: 0.022inch; Depth: 0.5mm; Lead Free: Lead Free; ComponentLink1URL: http://www.yageo.com/documents/recent/UPY-GP_NP0_16V-to-50V_16.pdf?src-supplier=Digi-Key; ComponentLink1Description: http://www.yageo.com/documents/recent/UPY-GP_NP0_16V-to-50V_16.pdf?src-supplier=Digi-Key; ComponentLink2URL: https://www.yageo.com/upload/media/product/productsearch/datasheet/mlcc/UPY-GP_NP0_16V-to-50V_18.pdf?src-supplier=Digi-Key; ComponentLink2Description: https://www.yageo.com/upload/media/product/productsearch/datasheet/mlcc/UPY-GP_NP0_16V-to-50V_18.pdf?src-supplier=Digi-Key; ComponentLink3URL: http://www.mouser.com/ds/2/447/Yageo_UPY-GP_NP0_16V-to-50V_9-358835.pdf?src-supplier=Mouser; ComponentLink3Description: http://www.mouser.com/ds/2/447/Yageo_UPY-GP_NP0_16V-to-50V_9-358835.pdf?src-supplier=Mouser; ComponentLink4URL: http://components.arrow.com/part/dataview/0323_00775890?src-supplier=Arrow+Europe; ComponentLink4Description: http://components.arrow.com/part/dataview/0323_00775890?src-supplier=Arrow+Europe; ComponentLink5URL: http://www.yageo.com/documents/recent/UPY-GP_NP0_16V-to-50V_9.pdf?src-supplier=Future+Electronics; ComponentLink5Description: http://www.yageo.com/documents/recent/UPY-GP_NP0_16V-to-50V_9.pdf?src-supplier=Future+Electronics; ComponentLink6URL: http://www.yageo.com/exep/pages/download/literatures/ProductSelectionGuide%202014_Final_2.pdf?src-supplier=Digi-Key; ComponentLink6Description: http://www.yageo.com/exep/pages/download/literatures/ProductSelectionGuide%202014_Final_2.pdf?src-supplier=Digi-Key; Supplier 1: Digi-Key; Stock 1: 15866; Pricing 1: 1=0.33, 10=0.227, 50=0.159, 100=0.1364, 500=0.10226, 1000=0.08636 (USD); Supplier Part Number 1: 478-KGQ15ACG2A820FTCT-ND
footprint C0603C/1608MM (Chip Capacitor, 2-Leads, Body 1.6x0.8mm, IPC High Density)
pins: 1, 2

## CAP CER 100nF 16V 5% X7R 0603
designator C?, comment 100nF
Cap Ceramic 0.1uF 16V X7R 5% SMD 0603 125C T/R; Manufacturer: Yageo; Manufacturer Part Number: CC0603JRX7R7BB104; Supplier 1: Digi-Key; Stock 1: 333951; Pricing 1: 1=0.1, 10=0.077, 50=0.042, 100=0.0343, 500=0.02448, 1000=0.01923 (USD); Mount: Surface Mount; Case/Package: 0603; Number of Pins: 2; Case Code (Metric): 1608; Case Code (Imperial): 0603; Min Operating Temperature: -55°C; Max Operating Temperature: 125°C; Capacitance: 100nF; Tolerance: 5%; Voltage Rating: 16V; Packaging: Tape and Reel; Dielectric: X7R; Voltage Rating (DC): 16V; Series: CC; Length: 1.6mm; Width: 0.031inch; Thickness: 0.035inch; Depth: 0.8mm; Radiation Hardening: No; Lead Free: Lead Free; Halogen Free: Halogen Free; RoHS Compliant: Yes; ComponentLink1URL: https://www.verical.com/server-webapp/html/getDatasheet?partID=403543&src-supplier=Verical; ComponentLink1Description: https://www.verical.com/server-webapp/html/getDatasheet?partID=403543&src-supplier=Verical; Supplier Part Number 1: 311-1776-1-ND
footprint C0603C/1608MM (Chip Capacitor, 2-Leads, Body 1.6x0.8mm, IPC High Density)
pins: 1, 2

## CAP CER 100pF 16V 5% X7R 0603
designator C?, comment 100pF
Cap Ceramic 100pF 16V C0G 5% Pad SMD 0603 125C T/R; Manufacturer: Yageo; Manufacturer Part Number: CC0402JRNPO7BN101; Supplier 1: Digi-Key; Stock 1: 16054; Pricing 1: 1=0.1, 10=0.027, 50=0.015, 100=0.0122, 500=0.0087, 1000=0.00683, 2500=0.00621, 5000=0.00571 (USD); Mount: Surface Mount; Case/Package: 0402; Number of Pins: 2; Case Code (Imperial): 0402; Case Code (Metric): 1005; Weight: 2.3E-05oz; Min Operating Temperature: -55°C; Max Operating Temperature: 125°C; Capacitance: 100pF; Tolerance: 5%; Packaging: Tape and Reel; Voltage Rating (DC): 16V; Voltage Rating: 16V; Dielectric: C0G; Termination: SMD/SMT; Resistor Type: Ceramic; Series: CC; Length: 0.039inch; Width: 0.02inch; Thickness: 0.022inch; Depth: 0.5mm; Lead Free: Lead Free; ComponentLink1URL: http://www.yageo.com/documents/recent/UPY-GP_NP0_16V-to-50V_16.pdf?src-supplier=Digi-Key; ComponentLink1Description: http://www.yageo.com/documents/recent/UPY-GP_NP0_16V-to-50V_16.pdf?src-supplier=Digi-Key; ComponentLink2URL: https://www.yageo.com/upload/media/product/productsearch/datasheet/mlcc/UPY-GP_NP0_16V-to-50V_18.pdf?src-supplier=Digi-Key; ComponentLink2Description: https://www.yageo.com/upload/media/product/productsearch/datasheet/mlcc/UPY-GP_NP0_16V-to-50V_18.pdf?src-supplier=Digi-Key; ComponentLink3URL: http://www.mouser.com/ds/2/447/Yageo_UPY-GP_NP0_16V-to-50V_9-358835.pdf?src-supplier=Mouser; ComponentLink3Description: http://www.mouser.com/ds/2/447/Yageo_UPY-GP_NP0_16V-to-50V_9-358835.pdf?src-supplier=Mouser; ComponentLink4URL: http://components.arrow.com/part/dataview/0323_00775890?src-supplier=Arrow+Europe; ComponentLink4Description: http://components.arrow.com/part/dataview/0323_00775890?src-supplier=Arrow+Europe; ComponentLink5URL: http://www.yageo.com/documents/recent/UPY-GP_NP0_16V-to-50V_9.pdf?src-supplier=Future+Electronics; ComponentLink5Description: http://www.yageo.com/documents/recent/UPY-GP_NP0_16V-to-50V_9.pdf?src-supplier=Future+Electronics; ComponentLink6URL: http://www.yageo.com/exep/pages/download/literatures/ProductSelectionGuide%202014_Final_2.pdf?src-supplier=Digi-Key; ComponentLink6Description: http://www.yageo.com/exep/pages/download/literatures/ProductSelectionGuide%202014_Final_2.pdf?src-supplier=Digi-Key; Supplier Part Number 1: 311-3743-6-ND
footprint C0603C/1608MM (Chip Capacitor, 2-Leads, Body 1.6x0.8mm, IPC High Density)
pins: 1, 2

## CAP CER 100pF 50V 5% X7R 0805
designator C?, comment 100pF/50V  Case/Package: 0805
0805 100 pF 50 V ±10 % Tolerance X7R SMT Multilayer Ceramic Capacitor; Manufacturer: Yageo; Manufacturer Part Number: CC0805KRX7R9BB101; Capacitance: 100pF; Tolerance: 10%; Voltage Rating (DC): 50V; Supplier 1: Digi-Key; Stock 1: 41926; Pricing 1: 1=0.11, 10=0.082, 50=0.0462, 100=0.0383, 500=0.02688, 1000=0.02225 (USD); Mount: Surface Mount; Case Code (Imperial): 0805; Case Code (Metric): 2012; Weight: 0.000194oz; Min Operating Temperature: -55°C; Max Operating Temperature: 125°C; Packaging: Tape and Reel; Voltage Rating: 50V; Dielectric: X7R; Termination: SMD/SMT; Resistor Type: Ceramic; Series: CC; Construction: Flat; Length: 0.079inch; Width: 0.049inch; Thickness: 0.028inch; Depth: 1.25mm; Radiation Hardening: No; Lead Free: Lead Free; Halogen Free: Halogen Free; RoHS Compliant: Yes; ComponentLink1URL: http://www.yageo.com/documents/recent/UPY-GPHC_X7R_6.3V-to-50V_8.pdf?src-supplier=Avnet; ComponentLink1Description: http://www.yageo.com/documents/recent/UPY-GPHC_X7R_6.3V-to-50V_8.pdf?src-supplier=Avnet; Supplier Part Number 1: 311-3603-6-ND
footprint C0805B/2012MM (Chip Capacitor, 2-Leads, Body 2.0x1.3mm, IPC Medium Density)
pins: 1, 2

## CAP CER 470nF 16V 5% X7R 0603
designator C?, comment 470nF
Cap Ceramic 0.47uF 16V X7R 5% SMD 0603 125C T/R; Manufacturer: Yageo; Manufacturer Part Number: CC0603JRX7R7BB104; Capacitance: 100nF; Supplier 1: Digi-Key; Stock 1: 333951; Pricing 1: 1=0.1, 10=0.077, 50=0.042, 100=0.0343, 500=0.02448, 1000=0.01923 (USD); Mount: Surface Mount; Case/Package: 0603; Number of Pins: 2; Case Code (Metric): 1608; Case Code (Imperial): 0603; Min Operating Temperature: -55°C; Max Operating Temperature: 125°C; Tolerance: 5%; Voltage Rating: 16V; Packaging: Tape and Reel; Dielectric: X7R; Voltage Rating (DC): 16V; Series: CC; Length: 1.6mm; Width: 0.031inch; Thickness: 0.035inch; Depth: 0.8mm; Radiation Hardening: No; Lead Free: Lead Free; Halogen Free: Halogen Free; RoHS Compliant: Yes; ComponentLink1URL: https://www.verical.com/server-webapp/html/getDatasheet?partID=403543&src-supplier=Verical; ComponentLink1Description: https://www.verical.com/server-webapp/html/getDatasheet?partID=403543&src-supplier=Verical; Supplier Part Number 1: 311-1776-1-ND
footprint C0603C/1608MM (Chip Capacitor, 2-Leads, Body 1.6x0.8mm, IPC High Density)
pins: 1, 2

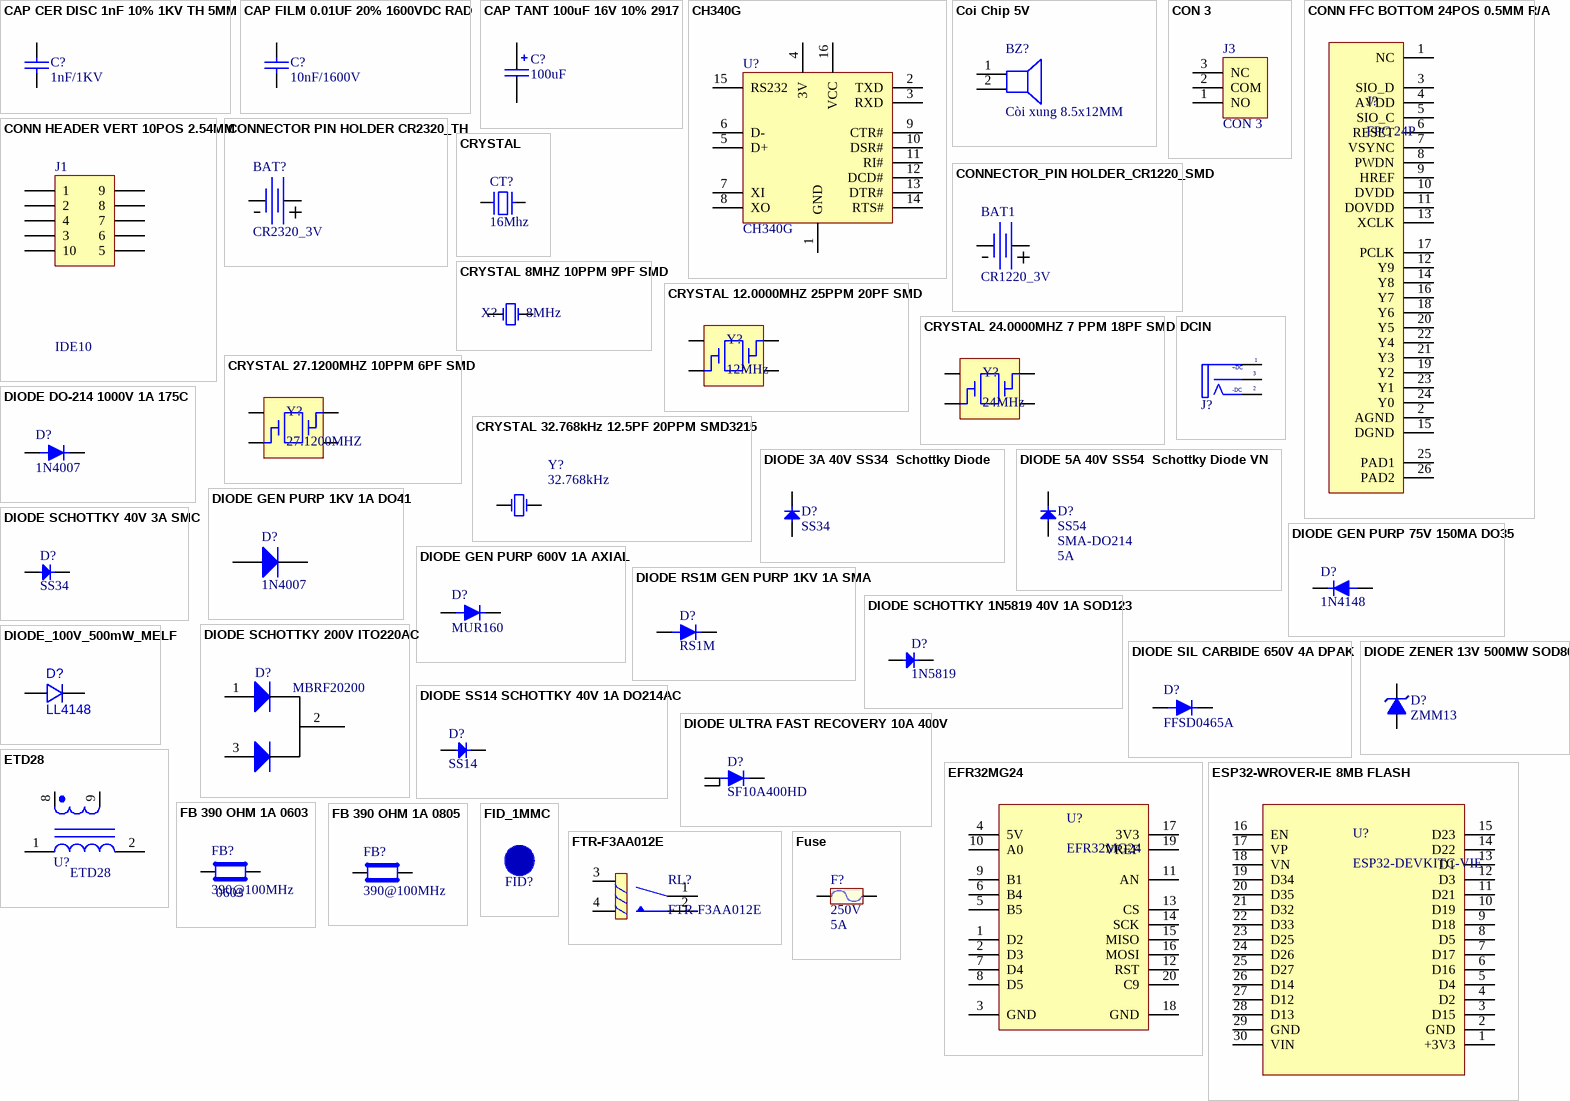
[diagram p1: symbols CAP CER DISC 1nF 10% 1KV TH 5MM to Fuse]

## CAP CER DISC 1nF 10% 1KV TH 5MM
designator C?, comment 1nF/1KV
CAP CER DISC 1nF 10% 1KV TH 5MM; Manufacturer: LKCL; Manufacturer Part Number: CLA1240; Processing Type: DIP; Packing: Tube; Unit: PCS; Value: 0.1uF/275V; Category: Capacitor
footprint CAP-MICA_Y5P102K2KV16CC0224
pins: 1, 2

## CAP FILM 0.01UF 20% 1600VDC RAD
designator C?, comment 10nF/1600V
Cap Film 0.01UF 20% 1600VDC Rad; Manufacturer: KEMET; Manufacturer Part Number: R474F210000A1M; Supplier 1: Digi-Key; Stock 1: 2655; Pricing 1: 1=0.65, 10=0.477, 50=0.3818, 100=0.3272, 500=0.25906, 1000=0.21816, 2500=0.20452, 5000=0.19089 (USD); RoHS Compliant: Yes; ComponentLink1URL: https://api.kemet.com/component-edge/download/datasheet/R474F210000A1M.pdf?src-supplier=Digi-Key; ComponentLink1Description: https://api.kemet.com/component-edge/download/datasheet/R474F210000A1M.pdf?src-supplier=Digi-Key; Supplier Part Number 1: 399-17233-ND
footprint 0.01uF/1600V
pins: 1, 2

## CAP TANT 100uF 16V 10% 2917
designator C?, comment 100uF
CAP TANT 100uF 16V 10% 2917; MPN: TAJD107K016RNJ; Solder: SMT; CompanyID: VT-00022; Value: 107/16V; Category: CAPACITOR; PinCount: 2
footprint CAP_TANTAL_2917(7343-31) (Chip capacitor, Body 6.0x3.2mm, IPC High Density)
pins: 1, 2

## CH340G
designator U?
High and Low Side Driver; Note: Pins 4, 8 and 14 are not connected; Published: 8-Jun-2000; LatestRevisionDate: 04-Mar-2005; LatestRevisionNote: Stylized 3D Model Added.; DatasheetVersion: PD60147J; PackageReference: PDIP14; Publisher: Altium Limited; PackageDescription: DIP; 14 Leads; Row Spacing 7.62 mm; Pitch 2.54 mm; ComponentLink1Description: Manufacturer Link; ComponentLink1URL: http://www.irf.com/; ComponentLink2Description: Datasheet; ComponentLink2URL: http://www.irf.com/product-info/datasheets/data/ir2110.pdf
footprint SOIC-16 (Small Outline IC (SOIC), 1.27 mm pitch; 16 pin, 9.90 mm L X 4.00 mm W X 1.75 mm H body)
pins: 1 GND, 2 TXD, 3 RXD, 4 3V, 5 D+, 6 D-, 7 XI, 8 XO, 9 CTR#, 10 DSR#, 11 RI#, 12 DCD#, 13 DTR#, 14 RTS#, 15 RS232, 16 VCC

## Coi Chip 5V
designator BZ?, comment Còi xung 8.5x12MM
Ten_Linh_Kien: Còi Chip 5V 9.5x12MM; Don_Vi: Con; Ma_Hang: MH000902; Chung_Loai: Cắm; Ghi_Chu: *; Kieu_Chan: *
footprint BUZZER_12.0X8.5MM
pins: 1, 2

## CON 3
designator J3
footprint CON 3
pins: 1 NO, 2 COM, 3 NC

## CONN FFC BOTTOM 24POS 0.5MM R/A
designator J?, comment FPC 24P
Conn; Rect; Rt. Angle; FFC/FPC; 0.50MM Pitch; 24 Circuit; Bottom Contact; ZIF; Manufacturer: Molex; Manufacturer Part Number: 505110-2491; Actuator Material: Nylon,Glass,Polyamide; Actuator Color: Black; Number of Positions: 24; Voltage Rating: 50V; Current Rating: 500mA; Gender: Receptacle; Mating Cycles: 25; Pitch: 0.5mm; Supplier 1: Digi-Key; Stock 1: 51686; Pricing 1: 1=1.03, 10=0.856, 100=0.7131, 1000=0.57045 (USD); Mount: Surface Mount; Number of Pins: 24; Contact Material: Bronze; Contact Plating: Gold; Housing Material: Polymer; Housing Color: Beige; Min Operating Temperature: -40°C; Max Operating Temperature: 105°C; Packaging: Cut Tape; Termination: Solder; Number of Circuits: 24; Number of Rows: 1; Orientation: Right Angle; Number of Contacts: 24; Series: Easy-On FD19 505110; Height: 1.9mm; Halogen Free: Low Halogen; Flammability Rating: UL94 V-0; ComponentLink1URL: http://www.farnell.com/datasheets/1966495.pdf?src-supplier=Element14; ComponentLink1Description: http://www.farnell.com/datasheets/1966495.pdf?src-supplier=Element14; ComponentLink2URL: http://www.farnell.com/datasheets/2790605.pdf?src-supplier=Farnell; ComponentLink2Description: http://www.farnell.com/datasheets/2790605.pdf?src-supplier=Farnell; ComponentLink3URL: http://www.molex.com/pdm_docs/sd/5051102091_sd.pdf?src-supplier=Avnet; ComponentLink3Description: http://www.molex.com/pdm_docs/sd/5051102091_sd.pdf?src-supplier=Avnet; ComponentLink4URL: http://www.alliedelec.com/images/products/datasheets/bm/MOLEX/70609530.pdf?src-supplier=Allied+Electronics; ComponentLink4Description: http://www.alliedelec.com/images/products/datasheets/bm/MOLEX/70609530.pdf?src-supplier=Allied+Electronics; ComponentLink5URL: http://www.farnell.com/datasheets/2790605.pdf?src-supplier=Newark; ComponentLink5Description: http://www.farnell.com/datasheets/2790605.pdf?src-supplier=Newark; ComponentLink6URL: https://media.digikey.com/pdf/Data%20Sheets/Molex%20PDFs/FFC-FPC_Connectors.pdf?src-supplier=Digi-Key; ComponentLink6Description: https://media.digikey.com/pdf/Data%20Sheets/Molex%20PDFs/FFC-FPC_Connectors.pdf?src-supplier=Digi-Key; Supplier Part Number 1: WM11289CT-ND
footprint CON_5051102491_MOL
pins: 1 NC, 2 AGND, 3 SIO_D, 4 AVDD, 5 SIO_C, 6 RESET, 7 VSYNC, 8 PWDN, 9 HREF, 10 DVDD, 11 DOVDD, 12 Y9, 13 XCLK, 14 Y8, 15 DGND, 16 Y7, 17 PCLK, 18 Y6, 19 Y2, 20 Y5, 21 Y3, 22 Y4, 23 Y1, 24 Y0, 25 PAD1, 26 PAD2

## CONN HEADER VERT 10POS 2.54MM
designator J1, comment IDE10
Connector Header Through Hole 10 position 0.050" (1.27mm)
footprint CONN IDE10 2.54MM
pins: 1, 2, 3, 4, 5, 6, 7, 8, 9, 10

## CONNECTOR PIN HOLDER CR2320_TH
designator BAT?, comment value CR2320_3V  (hidden comment: CONNECTOR)
CONNECTOR_PIN HOLDER_CR2320_TH; Manufacturer: Q&J; Manufacturer PN: CR1220-2; Datasheet Link: https://datasheet.lcsc.com/lcsc/1811061932_Q-J-CR1220-2_C70381.pdf; Distributor: LCSC; Distributor PN: C70381; Price: $0.2091; Sale Link: https://www.lcsc.com/product-detail/Battery-Connectors_Q-J-CR1220-2_C70381.html
footprint CR2032
pins: 1, 2

## CONNECTOR_PIN HOLDER_CR1220_SMD
designator BAT1, comment value CR1220_3V  (hidden comment: CONNECTOR)
CONNECTOR_PIN HOLDER_CR1220_SMD; Manufacturer: Q&J; Manufacturer PN: CR1220-2; Datasheet Link: https://datasheet.lcsc.com/lcsc/1811061932_Q-J-CR1220-2_C70381.pdf; Distributor: LCSC; Distributor PN: C70381; Price: $0.2091; Sale Link: https://www.lcsc.com/product-detail/Battery-Connectors_Q-J-CR1220-2_C70381.html
footprint CR12202
pins: 1, 2

## CRYSTAL
designator CT?, comment 16Mhz
Crystal For all Crystal 2pin.; Value: 4Mhz
footprint CRYSTAL_HC49-US-SM (SMD Crystal HC49/US-SM package)
pins: 1, 2

## CRYSTAL 8MHZ 10PPM 9PF SMD
designator X?, comment 8MHz
CRYSTAL 8.0000MHZ 18pF SMD; MPN: ABM3-8.000MHZ-D2Y-T; Solder: SMT; CompanyID: VT-00517; Value: 8MHz; Category: CRYSTAL
footprint CRYSTAL_ABM3 5x3.2mm (Crystal 5x3.2mm)
pins: 1 OSC1, 2 OSC2